# Altium footprint library ceramic_filters.PcbLib: 2 footprints
Each footprint in its own frame and in the unit in brackets; x right, y up, seen from the top. Pads: shape width x height; smd on the part's side, far side on the other; paste and mask are expansions set on the pad; w line width, h text height; cw(c..) or ccw(c..) is an arc to the next point about the centre after c.
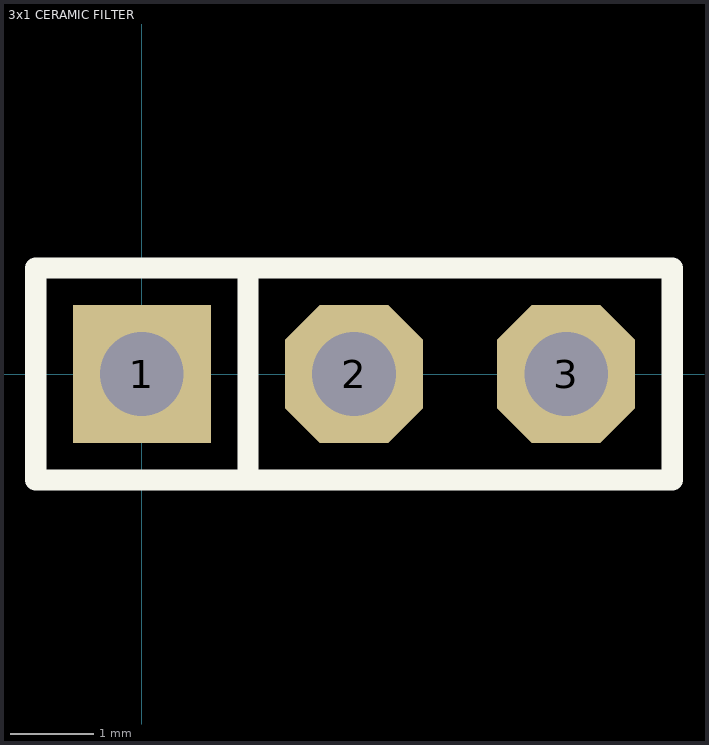
[diagram p0: the footprints below, top view; thin cyan lines are the x and y axes]

## 3x1 CERAMIC FILTER [mil] "THT Type Ceramic Filters  Frequency: 4.5 to 6.5MHz  Size: 8.5 x 3.8 x 2.0mm"
pads (3):
  rect 65x65 hole 39.37: 1(0,0)
  oct 65x65 hole 39.37: 2(100,0) 3(200,0)
Top Overlay:
  lines w10: 50,-50 50,50 ; -50,-50 250,-50 250,50 -50,50 -50,-19.68 -50,-50
3D body "User Library-FILTER_EMI_0349-1.step": height 261.82, standoff -82.25, extent -50.89,-50.04 249.11,49.61

## 8,5 x 3,8 x 2,0 SFSKA Series [mil] "SMD Type Ceramic Filters  Frequency: 4.5 to 6.5MHz  Size: 8.5 x 3.8 x 2.0mm"